# Altium schematic symbol library SCH - POWER - MODULE - FlybakTrafo_WE750811643.SCHLIB: 1 symbol
Pins are listed as number, name and electrical type; pins without a type are passive.

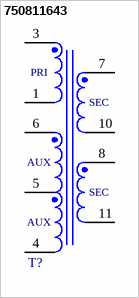
[diagram p0: symbol 750811643]

## 750811643
designator T?, comment Ui = 85 - 265V, Uo1 = 24V / 0.5A, Uo2 = 24V / 0.5A  (value not drawn)
WE-OLEFD EFD-Style Offline Flyback Transformer, EFD20 SMT, Ui = 85 - 265V, Uo1 = 24V / 0.5A, Uo2 = 24V / 0.5A; Manufacturer Part Number: 750811643; Manufacturer: Wurth Elektronik; Auxiliary Voltage: 20V; Inductance: 800uH; Input Voltage: 85 - 265VAC; Insulation Test Voltage: 4500VAC; Saturation Current: 1.4A; Switching Frequency: 68 - 120kHz; Turns Ratio: 20:3.6:3.6:2.2:1; Category: Offline Flyback Transformers; Match Code: WE-OLEFD; ComponentLink1Description: Website Link; ComponentLink1URL: https://www.we-online.com/redexpert/article/750811643?ad; ComponentLink2Description: Datasheet Link; ComponentLink2URL: https://www.we-online.com/redexpert/spec/750811643?ad; Mount: Surface Mount; Operating Temperature Max: 125°C; Operating Temperature Min: -40°C; Packaging: Tape and Reel; Case/Size Code: EFD20 SMT; Length: 33.8mm; Width: 21.5mm; Height: 12mm; Output Current 1: 0.5A; Output Current 2: 0.5A; Output Voltage 1: 24V; Output Voltage 2: 24V
pins: 1, 3, 4, 5, 6, 7, 8, 10, 11
text: PRI; SEC; AUX